# Altium footprint library DO214AA-STD.PcbLib: 1 footprints
Each footprint in its own frame and in the unit in brackets; x right, y up, seen from the top. Pads: shape width x height; smd on the part's side, far side on the other; paste and mask are expansions set on the pad; w line width, h text height; cw(c..) or ccw(c..) is an arc to the next point about the centre after c.
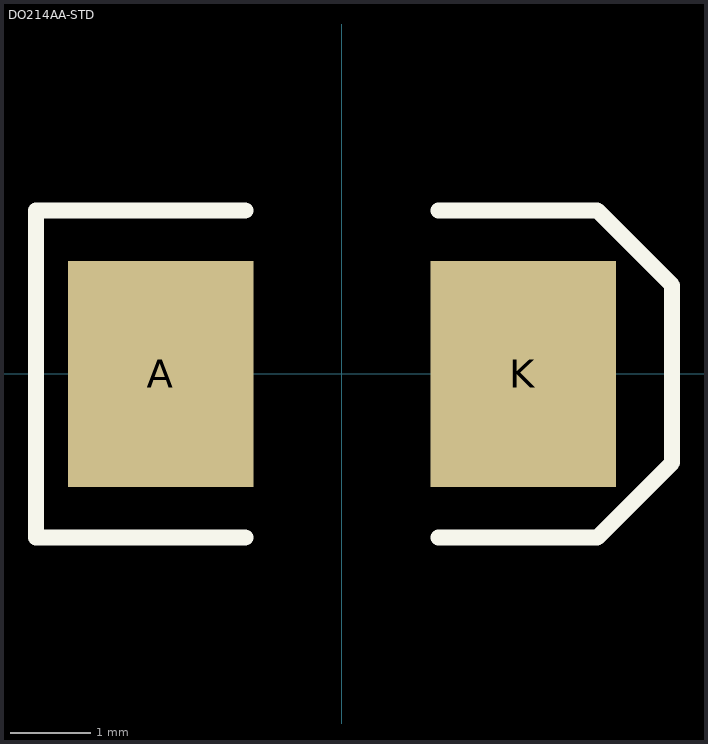
[diagram p0: the footprint, top view; thin cyan lines are the x and y axes]

## DO214AA-STD [mm]
height 2.5
pads (2):
  rect 2.3x2.8 smd: A(-2.25,0) K(2.25,0)
Top Overlay:
  lines w0.2: -1.2,-2.032 -3.8,-2.032 -3.8,2.032 -1.2,2.032 ; 1.2,-2.032 3.168,-2.032 4.1,-1.1 4.1,1.1 3.168,2.032 1.2,2.032
3D body: height 2.6, standoff -0.05, extent -2.794,-1.975 2.794,1.975